# EAGLE library part AT25010B-SSHL-T (library AT25010B)
Atmel EEPROM SPI
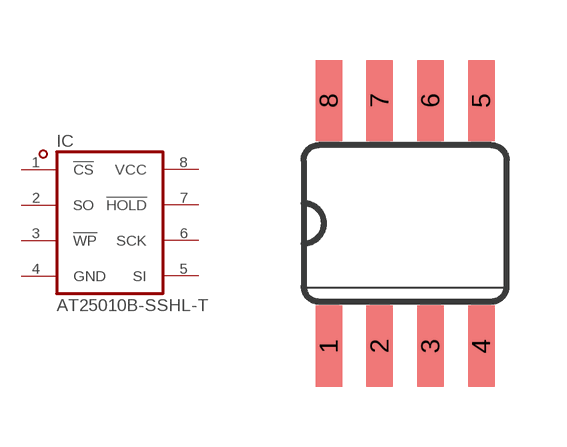
[diagram p0: symbol with the pads of SO08; footprint SO08]

Designator prefix IC

## AT25010B-SSHL-T  [SO08]
1  !CS  in
2  SO  out
3  !WP  in
4  GND  pwr
5  SI  in
6  SCK  pas
7  !HOLD  in
8  VCC  pwr

## Footprint SO08 (pad centres in mm)
Small Outline Package SOIC 150 mil
smd 0.66 x 2.032: 1 -1.905,-3.073; 2 -0.635,-3.073; 3 0.635,-3.073; 4 1.905,-3.073; 5 1.905,3.073; 6 0.635,3.073; 7 -0.635,3.073; 8 -1.905,3.073